# Altium footprint library Transformer.PcbLib: 3 footprints
Each footprint in its own frame and in the unit in brackets; x right, y up, seen from the top. Pads: shape width x height; smd on the part's side, far side on the other; paste and mask are expansions set on the pad; w line width, h text height; cw(c..) or ccw(c..) is an arc to the next point about the centre after c.
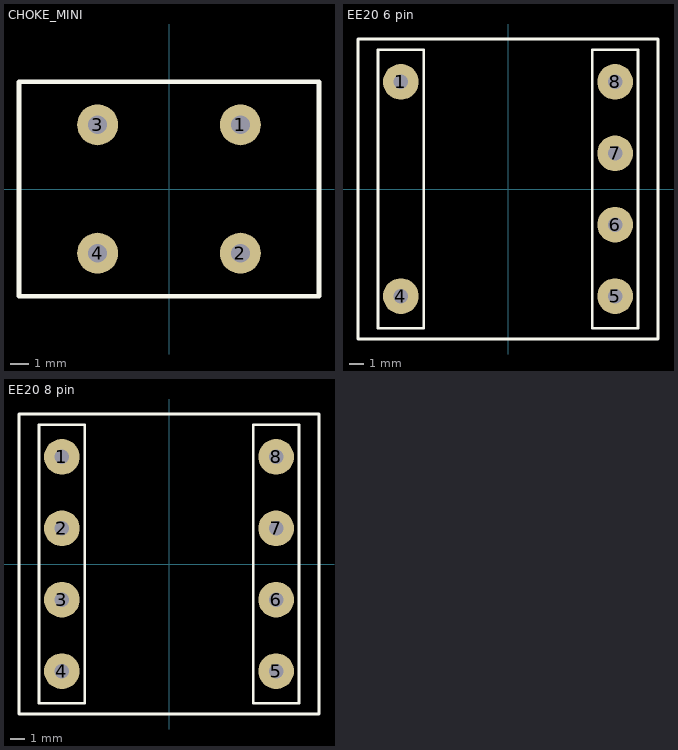
[diagram p0: the footprints below, top view; thin cyan lines are the x and y axes]

## CHOKE_MINI [mil]
pads (4):
  round 86 / inner round 60 / far side round 86 hole 39.37: 1(150,134.84) 2(150,-134.84) 3(-150,134.84) 4(-150,-134.84)
Top Overlay:
  lines w10: -314.96,-225 314.96,-225 314.96,225 -314.96,225 -314.96,-225
3D body "choke.step": height 620.97, standoff -156.98, extent -311.02,-216.53 311.02,216.54

## EE20 6 pin [mm]
pads (6):
  round 2.5 hole 1: 1(-7.5,7.5) 4(-7.5,-7.5) 5(7.5,-7.5) 6(7.5,-2.5) 7(7.5,2.5) 8(7.5,7.5)
Top Overlay:
  lines w0.2: -10.5,-10.5 -10.5,10.5 10.5,10.5 10.5,-10.5 -10.5,-10.5 ; -9.1,-9.75 -5.9,-9.75 -5.9,9.75 -9.1,9.75 -9.1,-9.75 ; 5.9,-9.75 5.9,9.75 9.1,9.75 9.1,-9.75 5.9,-9.75
3D body "EF20 trafo 6 pin v2.step": height 14.01, standoff -3.99, extent -10.25,-10.25 10.25,10.25

## EE20 8 pin [mm]
pads (8):
  round 2.5 hole 1: 1(-7.5,7.5) 2(-7.5,2.5) 3(-7.5,-2.5) 4(-7.5,-7.5) 5(7.5,-7.5) 6(7.5,-2.5) 7(7.5,2.5) 8(7.5,7.5)
Top Overlay:
  lines w0.2: -10.5,-10.5 -10.5,10.5 10.5,10.5 10.5,-10.5 -10.5,-10.5 ; -9.1,-9.75 -5.9,-9.75 -5.9,9.75 -9.1,9.75 -9.1,-9.75 ; 5.9,-9.75 5.9,9.75 9.1,9.75 9.1,-9.75 5.9,-9.75
3D body "EF20 trafo 8 pin v1.step": height 14.01, standoff -3.99, extent -10.25,-10.225 10.25,10.275